# Altium footprint library Freezer_Power.PcbLib: 40 footprints (part 3 of 3)
Each footprint in its own frame and in the unit in brackets; x right, y up, seen from the top. Pads: shape width x height; smd on the part's side, far side on the other; paste and mask are expansions set on the pad; w line width, h text height; cw(c..) or ccw(c..) is an arc to the next point about the centre after c.
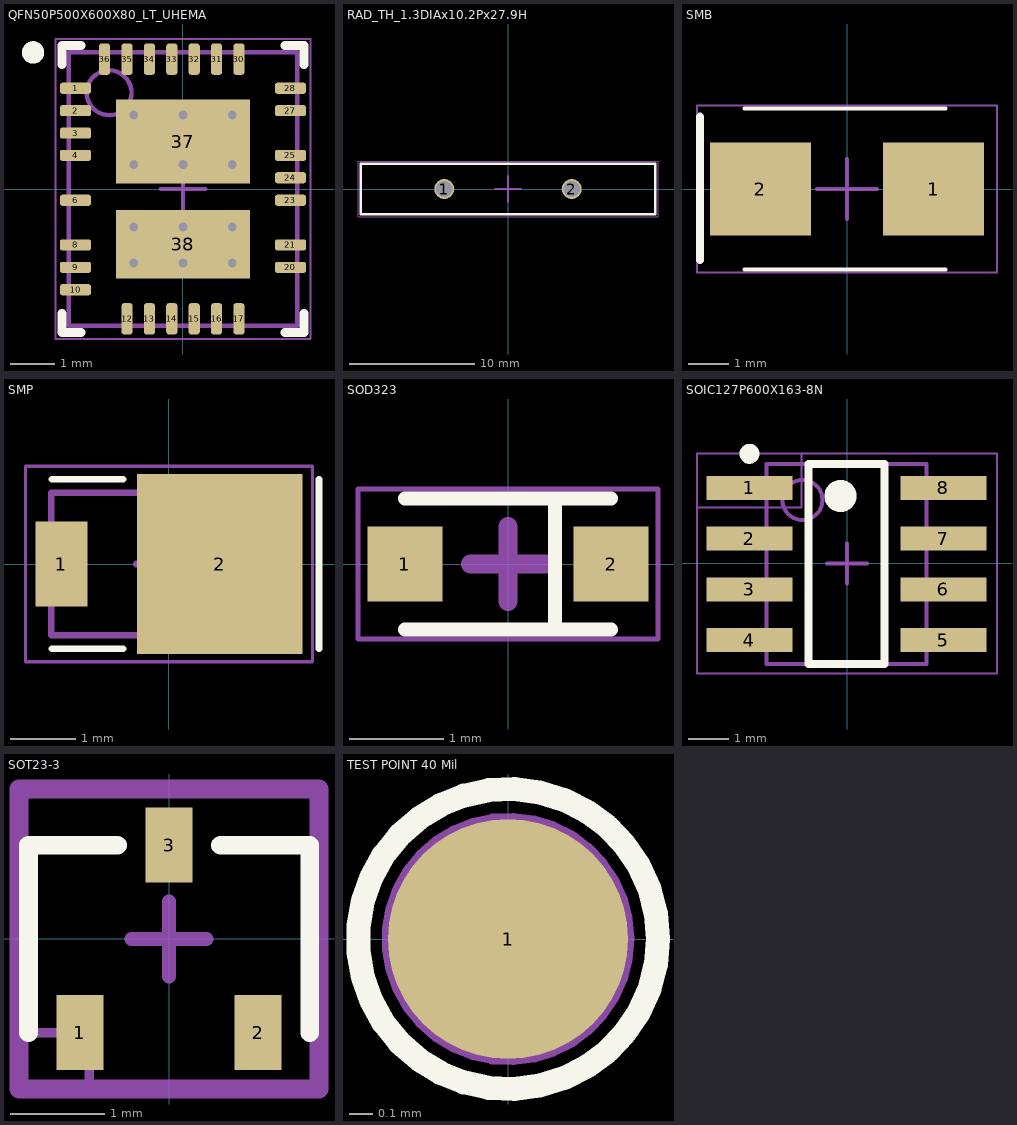
[diagram p2: the footprints below, top view; thin cyan lines are the x and y axes]

## QFN50P500X600X80_LT_UHEMA [mm] "QFN, 36-Leads, Body 5.00x6.00mm, Pitch 0.50mm, Thermal Pad 3.00x4.00mm, IPC High Density"
height 0.8
pads (30):
  rrect50% 0.7x0.25 smd mask+0.051: 1(-2.4,2.25) 2(-2.4,1.75) 3(-2.4,1.25) 4(-2.4,0.75) 6(-2.4,-0.25) 8(-2.4,-1.25) 9(-2.4,-1.75) 10(-2.4,-2.25) 20(2.4,-1.75) 21(2.4,-1.25) 23(2.4,-0.25) 24(2.4,0.25) 25(2.4,0.75) 27(2.4,1.75) 28(2.4,2.25)
  rrect50% 0.25x0.7 smd mask+0.051: 12(-1.25,-2.9) 13(-0.75,-2.9) 14(-0.25,-2.9) 15(0.25,-2.9) 16(0.75,-2.9) 17(1.25,-2.9) 30(1.25,2.9) 31(0.75,2.9) 32(0.25,2.9) 33(-0.25,2.9) 34(-0.75,2.9) 35(-1.25,2.9) 36(-1.75,2.9)
  rect 3x1.88 smd mask+0.051: 37(0,1.06)
  rect 3x1.53 smd mask+0.051: 38(0,-1.235)
via -1.1,1.65 diameter 0.5 hole 0.2
via 0,1.65 diameter 0.5 hole 0.2
via 1.1,1.65 diameter 0.5 hole 0.2
via -1.1,0.55 diameter 0.5 hole 0.2
via 0,0.55 diameter 0.5 hole 0.2
via 1.1,0.55 diameter 0.5 hole 0.2
via -1.1,-0.85 diameter 0.5 hole 0.2
via 0,-0.85 diameter 0.5 hole 0.2
via 1.1,-0.85 diameter 0.5 hole 0.2
via -1.1,-1.65 diameter 0.5 hole 0.2
via 0,-1.65 diameter 0.5 hole 0.2
via 1.1,-1.65 diameter 0.5 hole 0.2
Top Overlay:
  circle w0.25: c-3.35,3.05 r0.125
  lines w0.2: -2.7,-2.775 -2.7,-3.2 -2.275,-3.2 ; -2.7,2.775 -2.7,3.2 -2.275,3.2 ; 2.275,-3.2 2.7,-3.2 2.7,-2.775 ; 2.275,3.2 2.7,3.2 2.7,2.775
Top Assembly:
  circle w0.1: c-1.65,2.15 r0.5
  lines w0.1: -2.55,-3.05 -2.55,3.05 2.55,3.05 2.55,-3.05 -2.55,-3.05
Top Component Center:
  lines w0.1: -0.5,0 0.5,0 ; 0,-0.5 0,0.5
Top Courtyard:
  lines w0.05: -2.85,-3.35 -2.85,3.35 2.85,3.35 2.85,-3.35 -2.85,-3.35
  lines w0.1: -0.5,0 0.5,0 ; 0,-0.5 0,0.5
Top Designator:
  text ".Designator" at -6.198,-1 h1
3D body "QFN127P600-8N.step": height 0.8, standoff 0, extent -2.551,-3.051 2.551,3.051

## RAD_TH_1.3DIAx10.2Px27.9H [mm]
height 27.9
pads (2):
  round 1.6 hole 1.3: 1(-5.1,0) 2(5.1,0)
Top Overlay:
  lines w0.2: -11.8,-2 -11.8,2 11.8,2 11.8,-2 -11.8,-2
Top Component Center:
  lines w0.2: -1,0 1,0 ; 0,-1 0,1
Top Courtyard:
  lines w0.05: -12,-2.2 -12,2.2 12,2.2 12,-2.2 -12,-2.2
  lines w0.2: -1,0 1,0 ; 0,-1 0,1
Top Designator:
  text ".Designator" at -2.252,-0.226 h1
3D body: height 0, standoff 0, extent 4.604,-0.499 5.6,0.499
3D body: height 0, standoff 0, extent -5.596,-0.499 -4.6,0.499
3D body: height 27.9, standoff 0, extent -11.75,-2.013 11.75,1.987

## SMB [mm] "SMB diode"
height 1.75
pads (2):
  rect 2.5x2.3 smd: 1(2.15,0) 2(-2.15,0)
Top Overlay:
  lines w0.1: -2.55,-2 2.45,-2 ; -2.55,2 2.45,2
  lines w0.203: -3.65,-1.762 -3.65,1.794
Top Component Center:
  lines w0.1: -0.75,0 0.75,0 ; 0,-0.75 0,0.75
Top Courtyard:
  lines w0.05: -3.725,-2.075 -3.725,2.075 3.725,2.075 3.725,-2.075 -3.725,-2.075
  lines w0.1: -0.75,0 0.75,0 ; 0,-0.75 0,0.75
Top Designator:
  text ".Designator" at -2.252,-0.226 h1
3D body "User Library-DO-214AA(SMB).STEP": height 2.6, standoff -0.04, extent -2.794,-1.975 2.794,1.975

## SMP [mm] "SODFL, 2-Leads, Body 2.03x3.85mm, IPC High Density"
height 1.15
pads (2):
  rect 0.8x1.3 smd: 1(-1.65,0)
  rect 2.54x2.76 smd: 2(0.78,0)
Top Overlay:
  lines w0.1: -1.8,-1.3 -0.7,-1.3 ; -1.8,1.3 -0.7,1.3 ; 2.3,-1.3 2.3,1.3
Top Assembly:
  lines w0.1: -1.805,-1.09 1.805,-1.09 1.805,1.09 -1.805,1.09 -1.805,-1.09
Top Component Center:
  lines w0.1: -0.5,0 0.5,0 ; 0,-0.5 0,0.5
Top Courtyard:
  lines w0.05: -2.2,-1.5 -2.2,1.5 2.2,1.5 2.2,-1.5 -2.2,-1.5
  lines w0.1: -0.5,0 0.5,0 ; 0,-0.5 0,0.5
3D body "SODFL385X115-2L.step": height 1.15, standoff 0, extent -1.925,-1.09 1.925,1.09

## SOD323 [mm] "Generic Diode"
height 1.1
pads (2):
  rect 0.8x0.8 smd: 1(-1.1,0) 2(1.1,0)
Top Overlay:
  lines w0.15: -1.1,-0.7 1.1,-0.7 ; -1.1,0.7 1.1,0.7 ; 0.5,-0.7 0.5,0.7
Top Component Center:
  lines w0.2: -0.4,0 0.4,0 ; 0,-0.4 0,0.4
Top Courtyard:
  lines w0.05: -1.6,-0.8 1.6,-0.8 1.6,0.8 -1.6,0.8 -1.6,-0.8
  lines w0.2: -0.4,0 0.4,0 ; 0,-0.4 0,0.4
Top Designator:
  text ".Designator" at -2.252,-0.226 h1
3D body "User Library-SOD2513X11.STEP": height 1.1, standoff 0, extent -1.35,-0.625 1.35,0.625

## SOIC127P600X163-8N [mm]
height 1.63
pads (8):
  rect 2.15x0.6 smd: 1(-2.438,1.892) 2(-2.438,0.622) 3(-2.438,-0.648) 4(-2.438,-1.918) 5(2.412,-1.918) 6(2.412,-0.648) 7(2.412,0.622) 8(2.412,1.892)
Top Overlay:
  circle w0.4: c-0.163,1.687 r0.2
  circle w0.25: c-2.438,2.742 r0.125
  lines w0.2: -0.963,-2.513 0.937,-2.513 0.937,2.487 -0.963,2.487 -0.963,-2.513
Top Component Center:
  lines w0.1: -0.5,0 0.5,0 ; 0,-0.5 0,0.5
Top Courtyard:
  lines w0.05: -3.75,1.397 -1.143,1.397 -1.143,2.75 ; -3.75,-2.75 3.75,-2.75 3.75,2.75 -3.75,2.75 -3.75,-2.75
  lines w0.1: -0.5,0 0.5,0 ; 0,-0.5 0,0.5
Top Designator:
  text ".Designator" at -2.265,-0.239 h1
Top 3D Body:
  circle w0.1: c-1.113,1.587 r0.5
  lines w0.1: -2.013,-2.513 1.987,-2.513 1.987,2.487 -2.013,2.487 -2.013,-2.513
3D body "User Library-SOIC-8-1.STEP": height 1.75, standoff 0, extent -3,-2.45 3,2.45

## SOT23-3 [mm]
height 1.75
pads (3):
  rect 0.5x0.8 smd: 1(-0.95,-1) 2(0.95,-1) 3(0,1)
Top Overlay:
  lines w0.2: -1.5,-1 -1.5,1 -0.55,1 ; 0.55,1 1.5,1 1.5,-1
Top Courtyard:
  lines w0.1: -1.5,-1 -0.85,-1 -0.85,-1.6
  lines w0.15: -0.4,0 0.4,0 ; 0,-0.4 0,0.4
  lines w0.2: -1.6,-1.6 -1.6,1.6 1.6,1.6 1.6,-1.6 -1.6,-1.6
Top Designator:
  text ".Designator" at -2.252,-0.226 h1
3D body "User Library-SOT95P240X110-3M[SOT23-3_TO-236AB].STEP": height 1.09, standoff 0, extent -1.5,-1.25 1.5,1.25

## TEST POINT 40 Mil [mil] "MFG_PN:"
height 35.43
pads (1):
  round 40 smd paste-999 mask+0: 1(0,0)
Top Overlay:
  circle w4: c0,0 r25
Mechanical 29:
  circle w2: c0,0 r20.06
  text ".Designator" at -10.16,-1.49 h10